# Altium footprint library SS5-20-3.00-X-D-K-XX.PcbLib: 1 footprints
Each footprint in its own frame and in the unit in brackets; x right, y up, seen from the top. Pads: shape width x height; smd on the part's side, far side on the other; paste and mask are expansions set on the pad; w line width, h text height; cw(c..) or ccw(c..) is an arc to the next point about the centre after c.
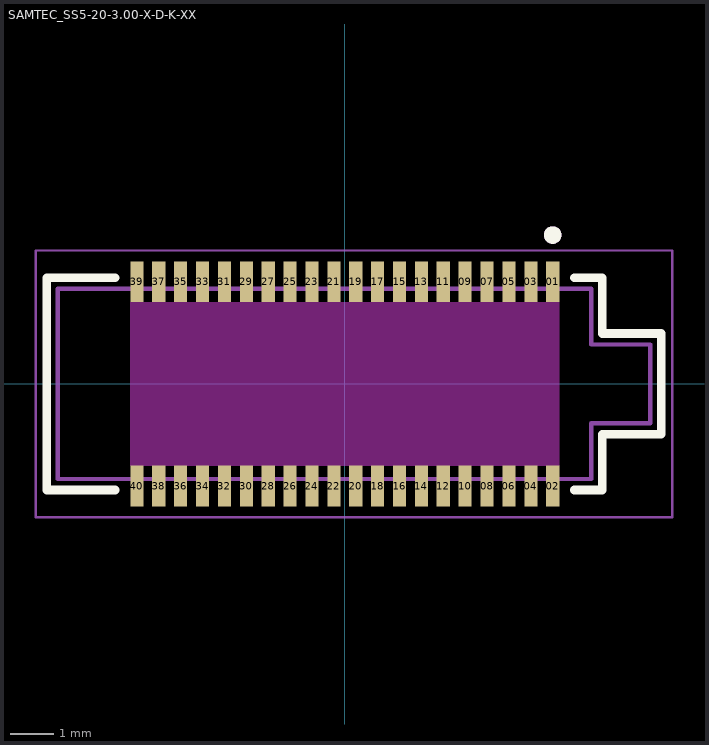
[diagram p0: the footprint, top view; thin cyan lines are the x and y axes]

## SAMTEC_SS5-20-3.00-X-D-K-XX [mm]
pads (40):
  rect 0.3x0.93 smd: 01(4.75,2.335) 02(4.75,-2.335) 03(4.25,2.335) 04(4.25,-2.335) 05(3.75,2.335) 06(3.75,-2.335) 07(3.25,2.335) 08(3.25,-2.335) 09(2.75,2.335) 10(2.75,-2.335) 11(2.25,2.335) 12(2.25,-2.335) 13(1.75,2.335) 14(1.75,-2.335) 15(1.25,2.335) 16(1.25,-2.335) 17(0.75,2.335) 18(0.75,-2.335) 19(0.25,2.335) 20(0.25,-2.335) 21(-0.25,2.335) 22(-0.25,-2.335) 23(-0.75,2.335) 24(-0.75,-2.335) 25(-1.25,2.335) 26(-1.25,-2.335) 27(-1.75,2.335) 28(-1.75,-2.335) 29(-2.25,2.335) 30(-2.25,-2.335) 31(-2.75,2.335) 32(-2.75,-2.335) 33(-3.25,2.335) 34(-3.25,-2.335) 35(-3.75,2.335) 36(-3.75,-2.335) 37(-4.25,2.335) 38(-4.25,-2.335) 39(-4.75,2.335) 40(-4.75,-2.335)
Top Overlay:
  circle w0.2: c4.75,3.4 r0.1
  lines w0.2: -5.25,-2.425 -6.81,-2.425 -6.81,2.425 -5.25,2.425 ; 5.25,-2.425 5.88,-2.425 5.88,-1.15 7.23,-1.15 7.23,1.15 5.88,1.15 5.88,2.425 5.25,2.425
Keep-Out Layer:
  region: 4.9,-1.87 -4.9,-1.87 -4.9,1.87 4.9,1.87
  region: 4.9,-1.87 -4.9,-1.87 -4.9,1.87 4.9,1.87
Mechanical 13:
  circle w0.2: c4.75,3.4 r0.1
  lines w0.1: -6.56,-2.175 -6.56,2.175 5.63,2.175 5.63,0.9 6.98,0.9 6.98,-0.9 5.63,-0.9 5.63,-2.175 -6.56,-2.175
Mechanical 15:
  lines w0.05: -7.06,-3.05 -7.06,3.05 7.48,3.05 7.48,-3.05 -7.06,-3.05
3D body "SS5-20-3.00-L-D-K-TR.stp": height 3.37, standoff -0.13, extent -6.56,-2.5 6.98,2.5